# Altium schematic symbol library D_Schottky.Schlib: 1 symbol
Pins are listed as number, name and electrical type; pins without a type are passive.

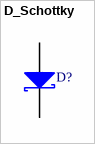
[diagram p0: symbol D_Schottky]

## D_Schottky
designator D?
Diode, Schottky
signal-integrity model D Schottky
pins: 1 A, 2 K